# Altium footprint library PEAK_PCB_COMPONENTS.PcbLib: 39 footprints (part 3 of 3)
Each footprint in its own frame and in the unit in brackets; x right, y up, seen from the top. Pads: shape width x height; smd on the part's side, far side on the other; paste and mask are expansions set on the pad; w line width, h text height; cw(c..) or ccw(c..) is an arc to the next point about the centre after c.
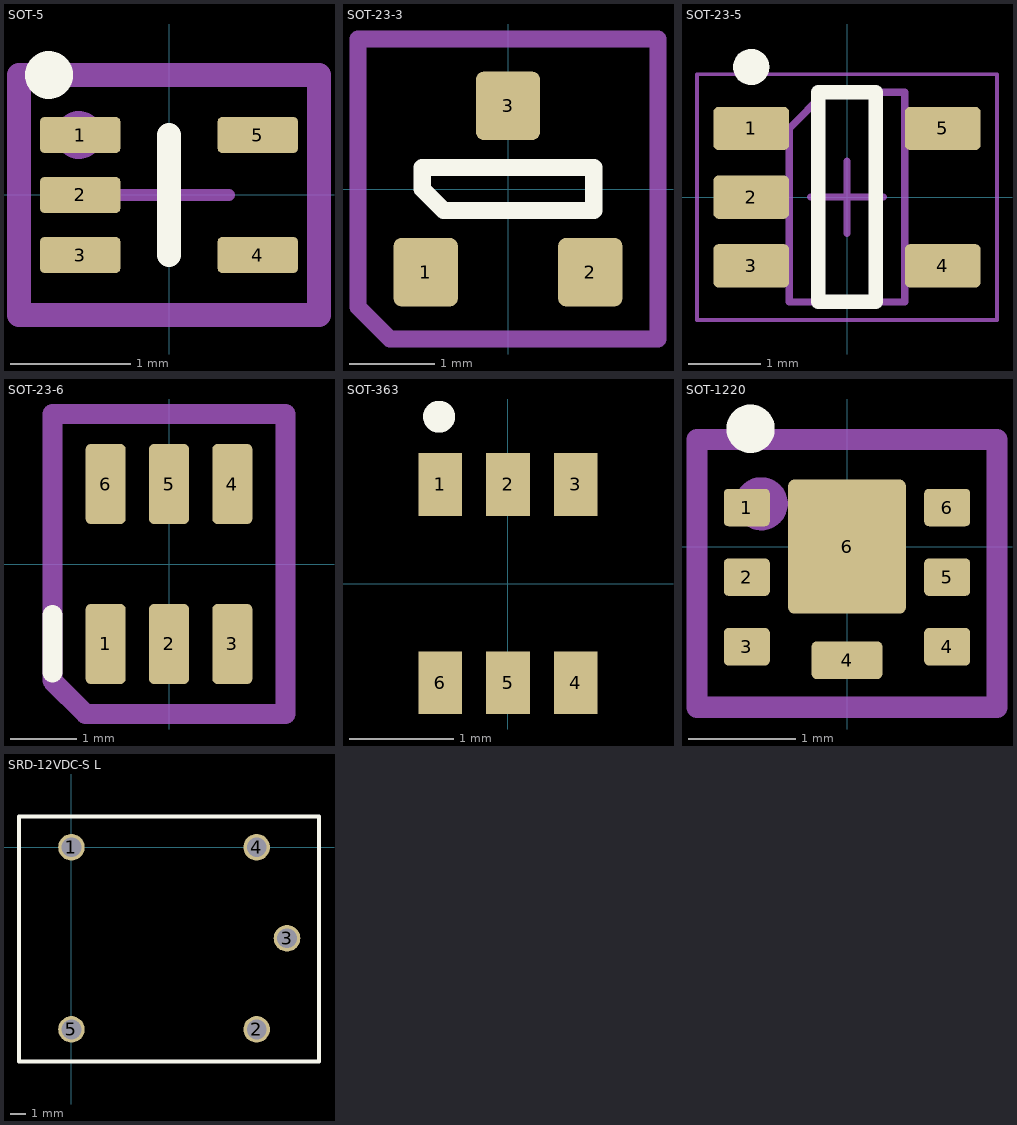
[diagram p2: the footprints below, top view; thin cyan lines are the x and y axes]

## SOT-5 [mm] "SOT, 5-Leads, Body 1.60x1.60mm, Pitch 0.50mm, IPC Medium Density"
height 0.6
pads (5):
  rrect25% 0.67x0.3 smd mask+0.05: 1(-0.74,0.5) 2(-0.74,0) 3(-0.74,-0.5) 4(0.74,-0.5) 5(0.74,0.5)
Top Overlay:
  circle w0.2: c-1,1 r0.1
  lines w0.2: 0,-0.5 0,0.5
Mechanical 13:
  circle w0.2: c-0.75,0.5 r0.1
  lines w0.2: -1.25,-1 1.25,-1 1.25,1 -1.25,1 -1.25,-1
Mechanical 15:
  lines w0.05: -1.225,-1 1.225,-1 1.225,1 -1.225,1 -1.225,-1
  lines w0.1: -0.5,0 0.5,0 ; 0,-0.5 0,0.5
3D body "SOT-5.step": height 0.6, standoff 0, extent -0.8,-0.848 0.8,0.848

## SOT-23-3 [mm]
pads (3):
  rrect25% 0.75x0.8 smd: 1(-0.96,-0.97) 2(0.96,-0.97) 3(0,0.97)
Top Overlay:
  lines w0.2: -1,0 -1,0.25 1,0.25 1,-0.25 -0.75,-0.25 -1,0
Mechanical 13:
  lines w0.2: -1.75,-1.377 -1.377,-1.75 1.75,-1.75 1.75,1.75 -1.75,1.75 -1.75,-1.377
  text "'.Designator'" at -5.84,-0.925 h1
3D body "SOT-23-3.stp": height 1.01, standoff 0.01, extent -1.45,-1.15 1.45,1.15

## SOT-23-5 [mm] "SOT23, 5-Leads, Body 2,90x2,80mm, Pitch 0,95mm, IPC Medium Density"
height 1.45
pads (5):
  rrect25% 1.05x0.6 smd: 1(-1.325,0.95) 2(-1.325,0) 3(-1.325,-0.95) 4(1.325,-0.95) 5(1.325,0.95)
Top Overlay:
  circle w0.25: c-1.325,1.8 r0.125
  lines w0.2: -0.4,-1.45 0.4,-1.45 0.4,1.45 -0.4,1.45 -0.4,-1.45
Mechanical 13:
  lines w0.1: -0.8,-1.45 -0.8,0.95 -0.3,1.45 0.8,1.45 0.8,-1.45 -0.8,-1.45
Mechanical 15:
  lines w0.05: -2.075,-1.7 -2.075,1.7 2.075,1.7 2.075,-1.7 -2.075,-1.7
  lines w0.1: -0.5,0 0.5,0 ; 0,-0.5 0,0.5
3D body "SOT95P280X145-5N.step": height 1.45, standoff 0, extent -1.4,-1.45 1.4,1.45

## SOT-23-6 [mm]
pads (6):
  rrect25% 0.6x1.2 smd: 1(-0.95,-1.2) 2(0,-1.2) 3(0.95,-1.2) 4(0.95,1.2) 5(0,1.2) 6(-0.95,1.2)
Top Overlay:
  lines w0.3: -1.75,-1.628 -1.75,-0.761
Mechanical 13:
  lines w0.3: -1.75,-1.75 -1.75,0 -1.75,2.25 1.75,2.25 1.75,-2.25 -1.25,-2.25 -1.75,-1.75
  text "'.Designator'" at -5.84,-0.925 h1
3D body "SOT23-6.step": height 1.45, standoff 0, extent -1.45,-1.4 1.45,1.4

## SOT-363 [mm]
pads (6):
  rect 0.42x0.6 smd: 1(-0.65,0.95) 2(0,0.95) 3(0.65,0.95) 4(0.65,-0.95) 5(0,-0.95) 6(-0.65,-0.95)
Top Overlay:
  circle w0.254: c-0.66,1.6 r0.025
3D body "SOT-363.stp": height 0.95, standoff 0, extent -1.04,-1.04 1.06,1.06

## SOT-1220 [mm]
pads (8):
  rrect25% 0.43x0.35 smd mask+0.05: 1(-0.935,0.365) 2(-0.935,-0.285) 3(-0.935,-0.935) 4(0.935,-0.935) 5(0.935,-0.285) 6(0.935,0.365)
  rrect25% 0.66x0.35 smd mask+0.12: 4(0,-1.06)
  rrect10% 1.1x1.25 smd mask+0.18: 6(0,0)
Top Overlay:
  circle w0.3: c-0.9,1.1 r0.075
Mechanical 13:
  circle w0.3: c-0.8,0.4 r0.097
  lines w0.2: -1.4,-1.5 1.4,-1.5 1.4,1 -1.4,1 -1.4,-1.5
  text ".Designator" at -4.998,-0.333 h1
3D body "SOT-1220-UDFN6B.STEP": height 0.61, standoff 0.01, extent -1,-1.287 1,0.713

## SRD-12VDC-S L [mm] "Mechanical Relay"
pads (5):
  round 1.75 hole 1.3: 1(0,0) 2(12.2,-12) 3(14.2,-6) 4(12.2,0) 5(0,-12)
Top Overlay:
  lines w0.254: -3.454,-14.122 16.307,-14.122 16.307,2.032 -3.454,2.032 -3.454,-14.122
3D body "SRD-12VDC-SL-C.step": height 15.81, standoff -2.99, extent -3.148,-13.818 16.052,1.782